# EAGLE library part INA199C3DCKR (library INA199C3DCKR)
26V, bi-directional, zero-drift, low-/high-side, voltage output current sense amplifier Source: Datasheet <http://www.ti.com/lit/gpn/INA199>
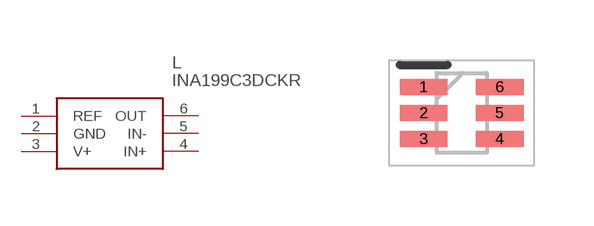
[diagram p0: symbol with the pads of SOT65P210X110-6N; footprint SOT65P210X110-6N]

Designator prefix L

## INA199C3DCKR (Description: 26V, bi-directional, zero-drift, low-/high-side, voltage output current sense amplifier; Height: 1.1mm; Manufacturer_Name: Texas Instruments; Manufacturer_Part_Number: INA199C3DCKR; Mouser_Part_Number: 595-INA199C3DCKR; Mouser_Price-Stock: https://www.mouser.co.uk/ProductDetail/Texas-Instruments/INA199C3DCKR?qs=0C8XhJW8e4r6fLKZGUND2A%3D%3D)  [SOT65P210X110-6N]
1  REF
2  GND
3  V+
4  IN+
5  IN-
6  OUT

## Footprint SOT65P210X110-6N (pad centres in mm)
DCK (R-PDSO-G6)
smd 1.2 x 0.4: 1 -0.95,0.65; 2 -0.95,0; 3 -0.95,-0.65; 4 0.95,-0.65; 5 0.95,0; 6 0.95,0.65